# Altium integrated library TerminalBlocksRisingCage_6.35mm.IntLib: 2 symbols
Pins are listed as number, name and electrical type; pins without a type are passive.

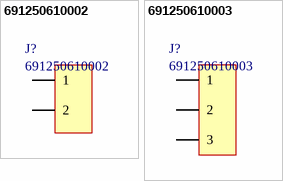
[diagram p0: symbols 691250610002 to 691250610003]

## 691250610002
designator J?
Horizontal Cable Entry with Rising Cage Clamp, Serie 2506 - 6.35mm; Manufacturer: Wurth Elektronik; ComponentLink1 Description: Manufacturer; ComponentLink2 Description: Datasheet; NoPins: 2; ComponentLink1 URL: http://www.we-online.com; ComponentLink2 URL: http://katalog.we-online.de/em/datasheet/6912506100xx.pdf; Created By: Baojun Chen; Created Date: 27.Aug.2015; PartNo: 691250610002
footprint 691250610002 (Serie 2506 - 6.35 mm _ 2 pins)
pins: 1, 2

## 691250610003
designator J?
Horizontal Cable Entry with Rising Cage Clamp, Serie 2506 - 6.35mm; Manufacturer: Wurth Elektronik; ComponentLink1 Description: Manufacturer; ComponentLink2 Description: Datasheet; NoPins: 3; ComponentLink1 URL: http://www.we-online.com; ComponentLink2 URL: http://katalog.we-online.de/em/datasheet/6912506100xx.pdf; Created By: Baojun Chen; Created Date: 27.Aug.2015; PartNo: 691250610003
footprint 691250610003 (Serie 2506 - 6.35 mm _ 3 pins)
pins: 1, 2, 3